# EAGLE library part UX60SA-MB-5ST (library hirose-ux60s)
Mini USB Connector HI-SPEED Certified Source: https://www.hirose.co.jp/catalogj_hp/j24000153.pdf
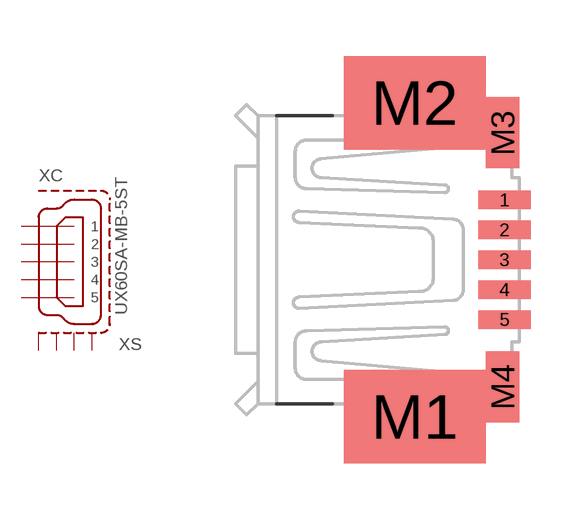
[diagram p0: symbol with the pads of UX60SA-MB-5ST; footprint UX60SA-MB-5ST]

Designator prefix X; gates C=USB S=SHIELD-4

## UX60SA-MB-5ST  [UX60SA-MB-5ST]
1  C:1  pwr
2  C:2  out
3  C:3
4  C:4  pas
5  C:5  pwr
M1  S:S1  pas
M2  S:S2  pas
M3  S:S3  pas
M4  S:S4  pas

## Footprint UX60SA-MB-5ST (pad centres in mm)
smd 1.4 x 0.5: 1 6.1,1.6; 2 6.1,0.8; 3 6.1,0; 4 6.1,-0.8; 5 6.1,-1.6
smd 3.8 x 2.5: M1 3.7,-4.2; M2 3.7,4.2
smd 0.9 x 1.9: M3 6.05,3.4; M4 6.05,-3.4